# EAGLE library part LIS332AR (library ST_Microelctronics_By_element14_Batch_1)
MEMS motion sensor
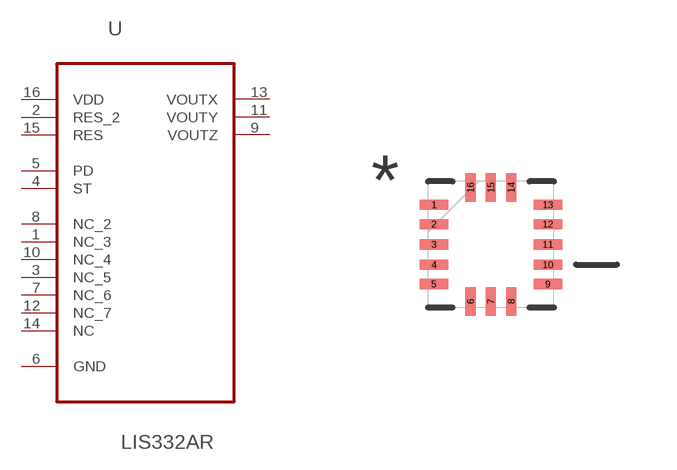
[diagram p77: symbol with the pads of LGA16R50P3X5_300X300X100; footprint LGA16R50P3X5_300X300X100]

Designator prefix U

## LIS332AR (MPN: LIS332AR; OC_FARNELL: 1838526; OC_NEWARK: 71R6451; PACKAGE: LGA-16; SUPPLIER: STMicroelectronics)  [LGA16R50P3X5_300X300X100]
1  NC_3  nc
2  RES_2  pwr
3  NC_5  nc
4  ST  in
5  PD  in
6  GND  pas
7  NC_6  nc
8  NC_2  nc
9  VOUTZ  out
10  NC_4  nc
11  VOUTY  out
12  NC_7  nc
13  VOUTX  out
14  NC  nc
15  RES  pwr
16  VDD  pwr

## Footprint LGA16R50P3X5_300X300X100 (pad centres in mm)
smd 0.711 x 0.254: 1 -1.422,0.991; 2 -1.422,0.508; 3 -1.422,0; 4 -1.422,-0.508; 5 -1.422,-0.991; 9 1.422,-0.991; 10 1.422,-0.508; 11 1.422,0; 12 1.422,0.508; 13 1.422,0.991
smd 0.254 x 0.711: 6 -0.508,-1.422; 7 0,-1.422; 8 0.508,-1.422; 14 0.508,1.422; 15 0,1.422; 16 -0.508,1.422